# EAGLE library part CON_MEGAFIT_2X4_MOLEX_768290008 (library WCSMain)
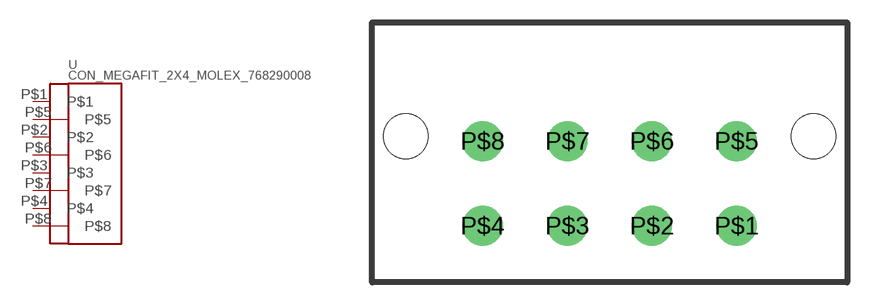
[diagram p21: symbol with the pads of CON_MEGAFIT_MOLEX_0768290008; footprint CON_MEGAFIT_MOLEX_0768290008]

Designator prefix -

## CON_MEGAFIT_2X4_MOLEX_768290008  [CON_MEGAFIT_MOLEX_0768290008]
P$1  P$1  pas
P$2  P$2  pas
P$3  P$3  pas
P$4  P$4  pas
P$5  P$5  pas
P$6  P$6  pas
P$7  P$7  pas
P$8  P$8  pas

## Footprint CON_MEGAFIT_MOLEX_0768290008 (pad centres in mm)
drill 1.8: P$1 8.55,-5.7; P$2 2.85,-5.7; P$3 -2.85,-5.7; P$4 -8.55,-5.7; P$5 8.55,0; P$6 2.85,0; P$7 -2.85,0; P$8 -8.55,0
hole 3 at -13.72,0.33
hole 3 at 13.72,0.33